# EAGLE library part DIP-USB-B-TYPE-FMAL(4+2P-2.0-90D) (library OPL_Connector)
320010018
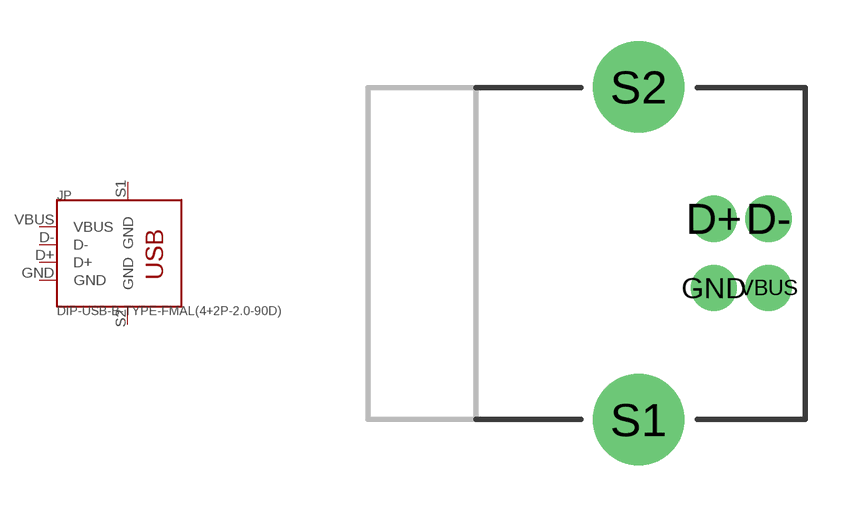
[diagram p28: symbol with the pads of USB4+2-2.5-90D-15.8X12MM; footprint USB4+2-2.5-90D-15.8X12MM]

Designator prefix JP

## DIP-USB-B-TYPE-FMAL(4+2P-2.0-90D)  [USB4+2-2.5-90D-15.8X12MM]
D+  D+
D-  D-
GND  GND
S1  GND
S2  GND
VBUS  VBUS

## Footprint USB4+2-2.5-90D-15.8X12MM (pad centres in mm)
USB Series B Hole Mounted
drill 0.914 pad 1.676: D+ 0,1.25; D- 1.981,1.25; GND 0,-1.25; VBUS 1.981,-1.25
drill 2.286: S1 -2.718,-6.02; S2 -2.718,6.02